# Altium schematic symbol library LL-34 ZMM3V3.Schlib: 1 symbol
Pins are listed as number, name and electrical type; pins without a type are passive.

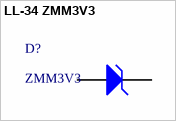
[diagram p0: symbol LL-34 ZMM3V3]

## LL-34 ZMM3V3
designator D?, comment ZMM3V3
稳压二极管
footprint LL-34
pins: 1 A, 2 K